# Altium schematic symbol library Diodes.SchLib: 13 symbols
Pins are listed as number, name and electrical type; pins without a type are passive.

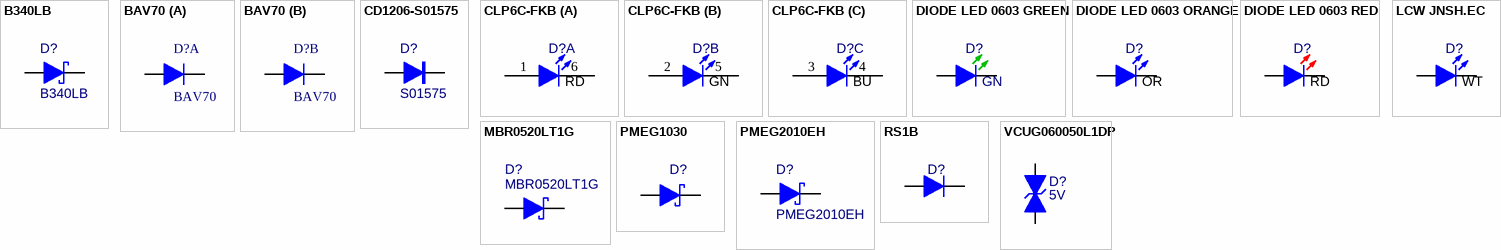
[diagram p0: symbols B340LB to VCUG060050L1DP]

## B340LB
designator D?
Schottky Diode 3.0 Amp 40 Volt; Manufacturer 1: Vishay; Manufacturer Part Number 1: B340LB-E3/52T; If: 3.0A; Vr: 40V; Vf: 0.34V; Supplier 1: Mouser; Supplier Part Number 1: 625-B340LB-E3; Last Updated: 2014-06-26; Package: DO-214AA; Created: 2014-06-26; ComponentLink1Description: Datasheet
footprint DO-214AA (Molded Diode, 2-Leads, Body 4,31x3,62mm, IPC Medium Density)
pins: 1 A "Anode", 2 K "Cathode"

## BAV70
designator D?
DIODE DUAL SOT-23 COMMON-K 70V 200mA; Manufacturer 1: ON; Manufacturer Part Number 1: BAV70LT; If: 0.2A; Pd: 0.225W; Vr: 100V; Supplier 1: Mouser; Supplier Part Number 1: 863-BAV70LT3G; Created: 2013-09-29; Last Updated: 2013-10-09; Package: SOT-23; ComponentLink1Description: Datasheet; ComponentLink1URL: http://www.mouser.com/ds/2/308/BAV70LT1-D-102760.pdf
footprint SOT23 (SOT23, 3-Leads, Body 2.9x1.3mm, Pitch 0.95mm, Lead Span 2.3mm - Reverse Pinning, IPC Low Density)
part A pins: 1 A "Anode", 3 K "Cathode"
part B pins: 2 A "Anode", 3 K "Cathode"

## CD1206-S01575
designator D?, comment S01575
Switching Chip Diode; Manufacturer 1: Bourns; Manufacturer Part Number 1: CD1206-S01575; If: 150mA; Vr: 100V; Vf: 1V; Package Imperial: 1206; Supplier 1: Mouser; Supplier Part Number 1: 652-CD1206-S01575; Last Updated: 2014-08-31; Package: 3216; Created: 2014-08-31; ComponentLink1Description: Datasheet
footprint DIOC3216 (Chip diode 3216 (1206))
pins: A "Anode", K "Cathode"

## CLP6C-FKB
designator D?  (value not drawn)
RGB LED; Supplier Part Number 1: 941-P6CFKBCK1P1G17R3; Supplier 1: Mouser; Created: 2013-09-29; Last Updated: 2013-10-09; ComponentLink1Description: Datasheet
footprint PLCC6 (SOJ, 6-Leads, Body 6.1x5.8mm (max), Pitch 2.10mm, IPC Low Density)
part A pins: 1 A, 6 K
part B pins: 2 A, 5 K
part C pins: 3 A, 4 K
part A text: RD
part B text: GN
part C text: BU

## DIODE LED 0603 GREEN
designator D?, comment Colour: GN  (hidden comment: Green)
LED Green; Manufacturer 1: Dialight; Manufacturer Part Number 1: 598-8070-107F; Supplier 1: Mouser; Supplier Part Number 1: 645-598-8070-107F; Last Updated: 2014-06-26; Created: 2013-09-29; ComponentLink1Description: Datasheet
footprint LED_1608_GN (0603) (Metric (Imperial))
pins: A "Anode", C "Cathode"

## DIODE LED 0603 ORANGE
designator D?, comment Orange  (value not drawn)
LED Orange; Manufacturer 1: Vishay; Manufacturer Part Number 1: VLMO1300-GS08; Supplier 1: Mouser; Supplier Part Number 1: 78-VLMO1300-GS08; Last Updated: 2013-10-09; Created: 2013-09-29; ComponentLink1Description: Datasheet
footprint 0603LED_ORANGE (Chip Capacitor, Body 1.6x0.8mm, IPC High Density)
pins: 1 A "Anode", 2 K "Cathode"
text: OR

## DIODE LED 0603 RED
designator D?, comment Red  (value not drawn)
LED Red; Manufacturer 1: Vishay; Manufacturer Part Number 1: VLMS1300-GS08; Supplier 1: Mouser; Supplier Part Number 1: 78-VLMS1300-GS08; Last Updated: 2013-10-09; Created: 2013-09-29; ComponentLink1Description: Datasheet
footprint 0603LED_RED (Chip Capacitor, Body 1.6x0.8mm, IPC High Density)
pins: 1 A "Anode", 2 K "Cathode"
text: RD

## LCW JNSH.EC
designator D?, comment White  (value not drawn)
LED White; Manufacturer 1: Osram; Manufacturer Part Number 1: LCW JNSH.EC; Last Updated: 2013-10-10; Created: 2013-09-29; ComponentLink1Description: Datasheet; ComponentLink1URL: http://catalog.osram-os.com/catalogue/catalogue.do;jsessionid=DE055A1ED470C5820BBAF7FD3336F7EA?act=downloadFile&favOid=020000050001b427000100b6
footprint LCW JNSH.EC
pins: A "Anode", K "Cathode"
text: WT

## MBR0520LT1G
designator D?
1A very low Vf MEGA Schottky barrier rectifier; Manufacturer 1: On; Supplier 1: Mouser; Supplier Part Number 1: 863-MBR0520LT1G; Last Updated: 2014-02-17; Package: SOD-123F; Created: 2014-02-17; ComponentLink1Description: Datasheet; Manufacturer Part Number 1: MBR0520LT1G
footprint SOD-123F
pins: 1 A "Anode", 2 K "Cathode"

## PMEG1030
designator D?  (value not drawn)
DIODE SCHOTTKY SOD323 10V 3A; Manufacturer 1: NXP; Manufacturer Part Number 1: PMEG1030EH,115; Pd: 1.59W; Vf: 0.53V; Supplier 1: Mouser; Supplier Part Number 1: 771-PMEG1030EJ-T/R; Created: 2014-01-23; Last Updated: 2014-01-23; Package: SOD323; ComponentLink1Description: Datasheet; If: 3A; Vr: 10V
pins: 1 A "Anode", 2 K "Cathode"

## PMEG2010EH
designator D?
1A very low Vf MEGA Schottky barrier rectifier; Manufacturer 1: NXP; Vr: 20V; Vf: 0.42V; Supplier 1: Mouser; Supplier Part Number 1: 771-PMEG1030EJ-T/R; Last Updated: 2014-06-27; Manufacturer Part Number 1: PMEG2010EH; Package: SOD-123F; Created: 2013-09-29; ComponentLink1Description: Datasheet; If: 1A
footprint SOD-123F
pins: 1 A "Anode", 2 K "Cathode"

## RS1B
designator D?  (value not drawn)
DIODE SMA2 50V 1A; Supplier 1: Mouser; Supplier Part Number 1: 625-RS1B-E3; Created: 2013-09-29; Last Updated: 2013-10-09; ComponentLink1Description: Datasheet
footprint SMA2
pins: 1 A "Cathode", 2 K "Anode"

## VCUG060050L1DP
designator D?, comment 5V
ESD Protection 5V; Manufacturer 1: AVX; Manufacturer Part Number 1: VCUG060050L1DP; If: 30A; ComponentLink1Description: Datasheet; Created: 2013-10-11; Last Updated: 2013-10-11; Package: 0603; Supplier 1: Mouser; Supplier Part Number 1: 581-VCUG060050L1DP; Vf: 5V
footprint 0603DIODE (Chip Diode Body 1.6x0.8mm, IPC High Density)
pins: 1 "Cathode", 2 "Anode"